# Altium integrated library S8B-XH-A-1.IntLib: 1 symbol
Pins are listed as number, name and electrical type; pins without a type are passive.

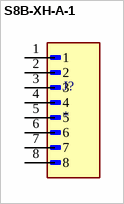
[diagram p0: symbol S8B-XH-A-1]

## S8B-XH-A-1
designator J?
Connector Header Through Hole, Right Angle 8 position 0.098 (2.50mm); MF: JST Sales; MP: S8B-XH-A-1; SnapEDA_Link: https://www.snapeda.com/parts/S8B-XH-A-1/JST+Sales+America+Inc./view-part/?ref=snap; Package: None; Value: *; Check_prices: https://www.snapeda.com/parts/S8B-XH-A-1/JST+Sales+America+Inc./view-part/?ref=eda
footprint JST_S8B-XH-A-1
pins: 1, 2, 3, 4, 5, 6, 7, 8